# Altium footprint library PWP0016D_L.PcbLib: 1 footprints
Each footprint in its own frame and in the unit in brackets; x right, y up, seen from the top. Pads: shape width x height; smd on the part's side, far side on the other; paste and mask are expansions set on the pad; w line width, h text height; cw(c..) or ccw(c..) is an arc to the next point about the centre after c.
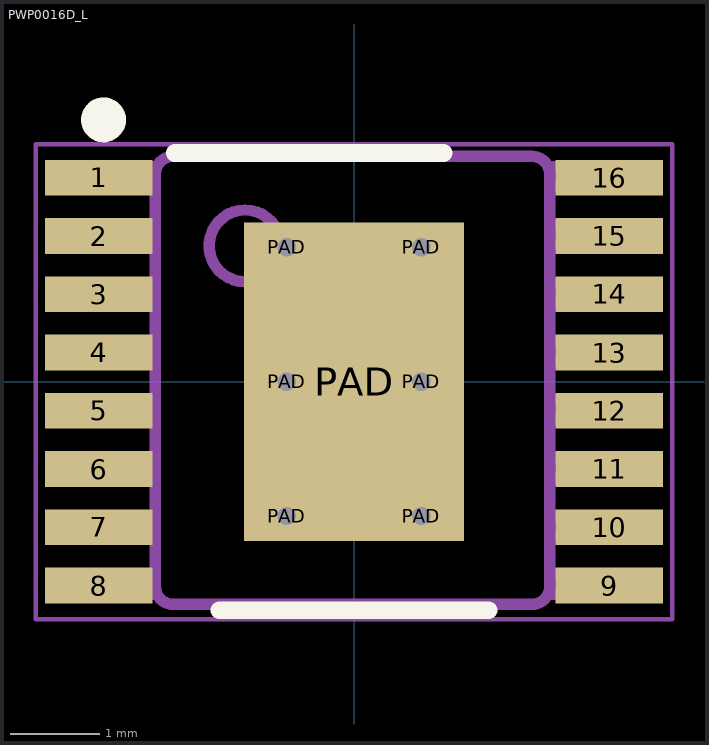
[diagram p0: the footprint, top view; thin cyan lines are the x and y axes]

## PWP0016D_L [mm]
pads (23):
  rect 1.2x0.4 smd paste+0 mask+0.051: 1(-2.85,2.275) 2(-2.85,1.625) 3(-2.85,0.975) 4(-2.85,0.325) 5(-2.85,-0.325) 6(-2.85,-0.975) 7(-2.85,-1.625) 8(-2.85,-2.275) 9(2.85,-2.275) 10(2.85,-1.625) 11(2.85,-0.975) 12(2.85,-0.325) 13(2.85,0.325) 14(2.85,0.975) 15(2.85,1.625) 16(2.85,2.275)
  round 0.5 hole 0.203 mask+0.051: PAD(-0.75,-1.5) PAD(-0.75,0) PAD(-0.75,1.5) PAD(0.75,-1.5) PAD(0.75,0) PAD(0.75,1.5)
  rect 2.46x3.55 smd paste+0 mask+0.051: PAD(0,0)
Top Overlay:
  circle w0.25: c-2.794,2.921 r0.125
  lines w0.2: -2,2.55 1,2.55 ; -1.5,-2.55 1.5,-2.55
Mechanical 13:
  drawing of 202 lines, arcs and shapes, not listed
Mechanical 15:
  lines w0.05: -3.55,-2.65 -3.55,2.65 3.55,2.65 3.55,-2.65 -3.55,-2.65
  lines w0.1: -0.5,0 0.5,0 ; 0,-0.5 0,0.5
3D body: height 0.25, standoff 0, extent 0,0 0.254,0.254
3D body "PWP0016J.stp": height 1.13, standoff 0, extent -3.2,-2.5 3.2,2.5